# Altium schematic symbol library LTC6373.SchLib: 1 symbol
Pins are listed as number, name and electrical type; pins without a type are passive.

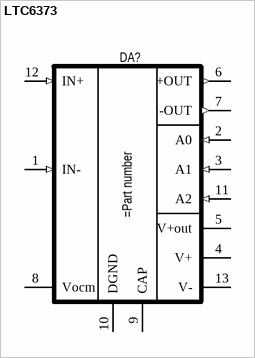
[diagram p0: symbol LTC6373]

## LTC6373
designator DA?
36 V Fully-Differential Programmable-Gain Instrumentation Amplifier with 25 pA Input Bias Current
pins: 1 IN- (in), 2 A0 (in), 3 A1 (in), 4 V+ (power), 5 V+out, 6 +OUT (out), 7 -OUT (out), 8 Vocm, 9 CAP, 10 DGND (power), 11 A2 (in), 12 IN+ (in), 13 V- (power)